# Altium schematic symbol library DS.Schlib: 1 symbol
Pins are listed as number, name and electrical type; pins without a type are passive.

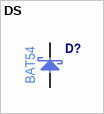
[diagram p0: symbol DS]

## DS
designator D?  Manufacturer Part Number: BAT54  (hidden comment: DS)
pins: 1 C, 2 A